# Altium footprint library PcbLib1.PcbLib: 31 footprints (part 1 of 2)
Each footprint in its own frame and in the unit in brackets; x right, y up, seen from the top. Pads: shape width x height; smd on the part's side, far side on the other; paste and mask are expansions set on the pad; w line width, h text height; cw(c..) or ccw(c..) is an arc to the next point about the centre after c.
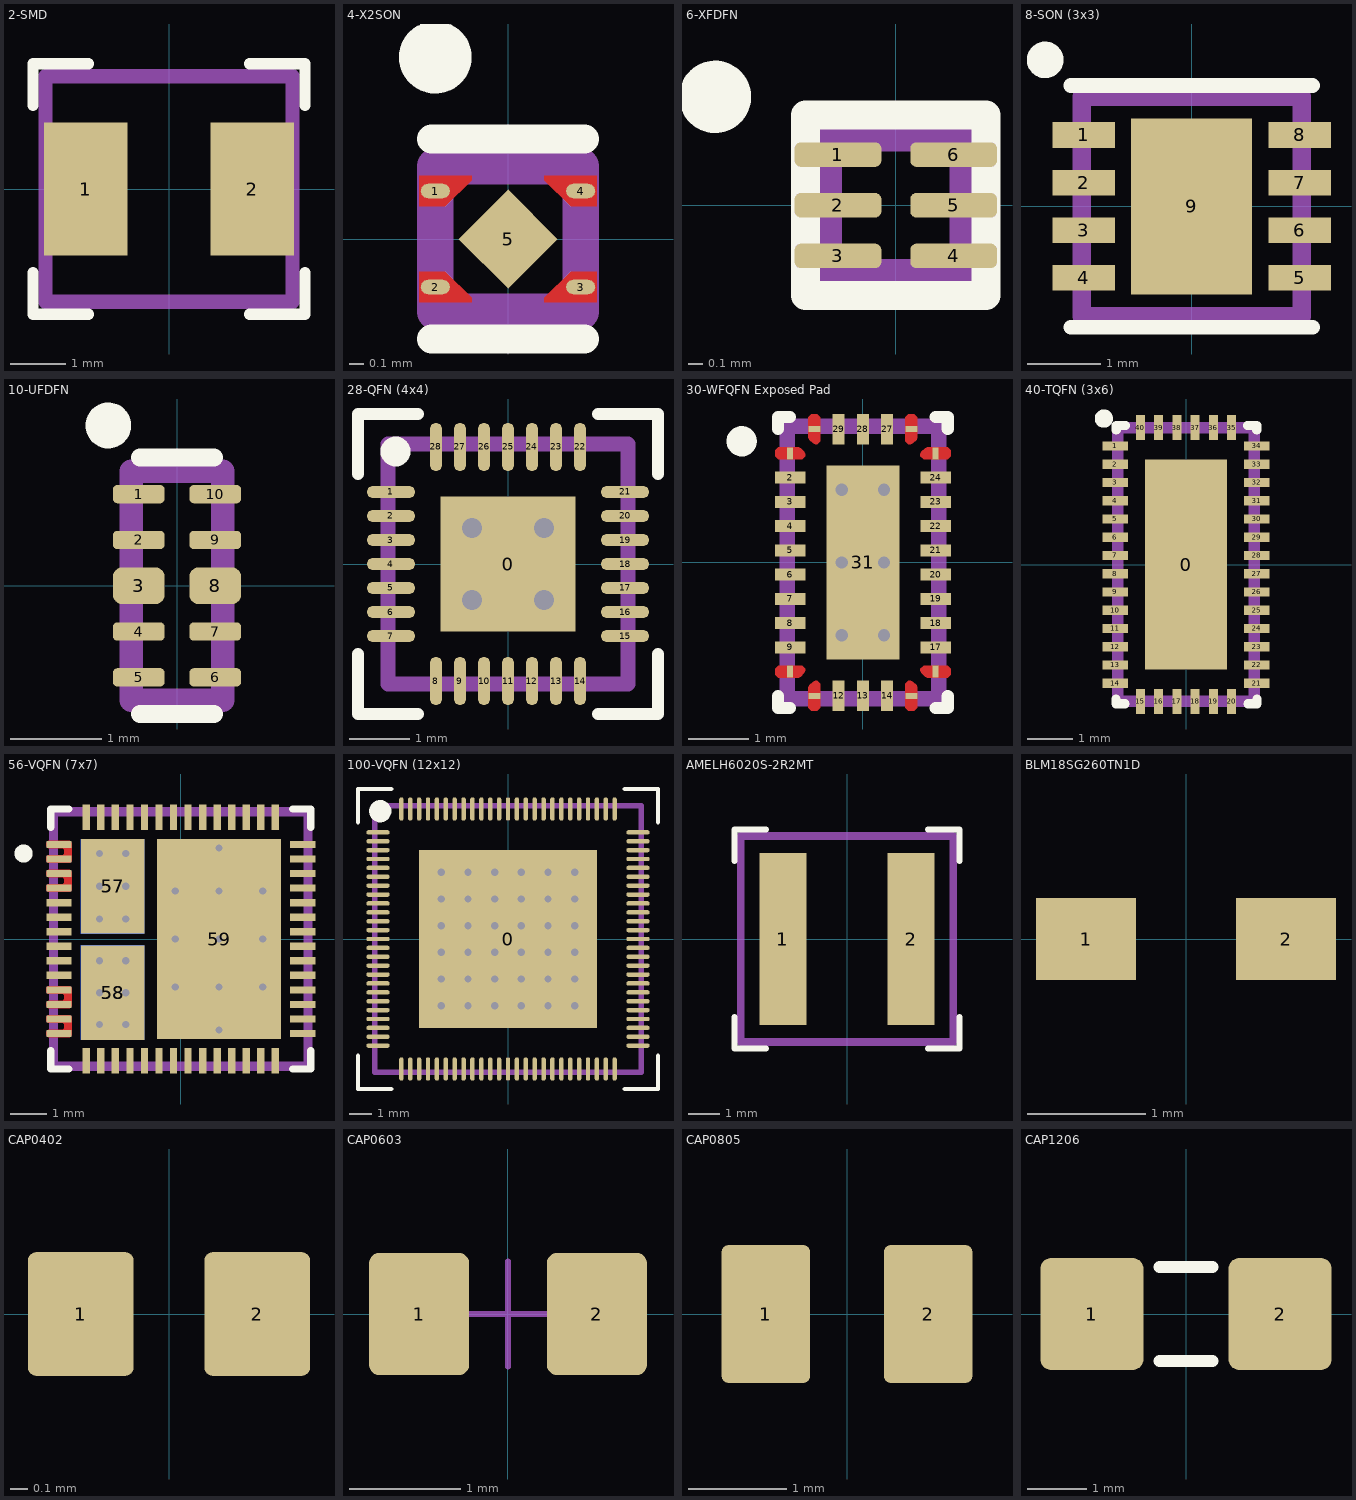
[diagram p0: the footprints below, top view; thin cyan lines are the x and y axes]

## 2-SMD [mm]
pads (2):
  rect 1.5x2.4 smd: 1(-1.5,0) 2(1.5,0)
Top Overlay:
  lines w0.2: -2.45,-1.505 -2.45,-2.255 -1.45,-2.255 ; -2.45,1.505 -2.45,2.255 -1.45,2.255 ; 1.45,-2.255 2.45,-2.255 2.45,-1.505 ; 1.45,2.255 2.45,2.255 2.45,1.505
Top Component Outline:
  lines w0.254: -2.225,-2.03 2.225,-2.03 2.225,2.03 -2.225,2.03 -2.225,-2.03
M9 PCB Sheet:
  text ".Designator" at -2.253,-0.226 h1
3D body "Download_STP_WE-LHMI-4020_rev1.stp": height 1.7, standoff -0.1, extent -2.225,-2.03 2.225,2.03

## 4-X2SON [mm]
pads (5):
  oval 0.2x0.1 smd mask+0: 1(-0.5,0.33) 2(-0.5,-0.33) 3(0.5,-0.33) 4(0.5,0.33)
  rect 0.48x0.48 smd rot 135 paste-0.277: 5(0,0)
Top Layer:
  region: 0.61,0.225 0.61,0.435 0.25,0.435 0.25,0.405 0.43,0.225
  region: -0.61,0.225 -0.61,0.435 -0.25,0.435 -0.25,0.405 -0.43,0.225
  region: -0.61,-0.225 -0.61,-0.435 -0.25,-0.435 -0.25,-0.405 -0.43,-0.225
  region: 0.61,-0.225 0.61,-0.435 0.25,-0.435 0.25,-0.405 0.43,-0.225
Top Overlay:
  circle w0.25: c-0.5,1.25 r0.125
  lines w0.2: -0.525,-0.687 0.525,-0.687 ; -0.525,0.687 0.525,0.687
Top Paste:
  region: 0.283,0.035 0.283,-0.035 0.035,-0.283 -0.035,-0.283 -0.283,-0.035 -0.283,0.035 -0.035,0.283 0.035,0.283
Top Solder:
  region: -0.61,-0.225 -0.61,-0.435 -0.25,-0.435 -0.25,-0.405 -0.43,-0.225
  region: 0.61,-0.225 0.61,-0.435 0.25,-0.435 0.25,-0.405 0.43,-0.225
  region: -0.61,0.225 -0.61,0.435 -0.25,0.435 -0.25,0.405 -0.43,0.225
  region: -0.66,-0.175 -0.66,-0.485 -0.2,-0.485 -0.2,-0.385 -0.41,-0.175
  region: 0.66,-0.175 0.66,-0.485 0.2,-0.485 0.2,-0.385 0.41,-0.175
  region: -0.66,0.175 -0.66,0.485 -0.2,0.485 -0.2,0.385 -0.41,0.175
  region: 0.66,0.175 0.66,0.485 0.2,0.485 0.2,0.385 0.41,0.175
Top Component Outline:
  lines w0.254: -0.5,-0.5 0.5,-0.5 0.5,0.5 -0.5,0.5 -0.5,-0.5
M9 PCB Sheet:
  text ".Designator" at -2.253,-0.226 h1
3D body "DQN0004A.stp": height 0.34, standoff -0.02, extent -0.5,-0.5 0.5,0.5

## 6-XFDFN [mm]
pads (6):
  rrect50% 0.6x0.17 smd: 1(-0.4,0.35) 2(-0.4,0) 3(-0.4,-0.35) 4(0.4,-0.35) 5(0.4,0) 6(0.4,0.35)
Top Overlay:
  circle w0.25: c-1.25,0.75 r0.125
  lines w0.2: -0.625,-0.625 0.625,-0.625 0.625,0.625 -0.625,0.625 -0.625,-0.625
Top Component Outline:
  lines w0.254: -0.5,-0.5 0.5,-0.5 0.5,0.5 -0.5,0.5 -0.5,-0.5
M9 PCB Sheet:
  text ".Designator" at -2.253,-0.226 h1
3D body "DSF0006A.stp": height 0.48, standoff 0, extent -0.5,-0.5 0.5,0.5

## 8-SON (3x3) [mm] "8-VDFN Exposed Pad"
pads (9):
  rect 0.85x0.35 smd: 1(-1.475,0.975) 2(-1.475,0.325) 3(-1.475,-0.325) 4(-1.475,-0.975) 5(1.475,-0.975) 6(1.475,-0.325) 7(1.475,0.325) 8(1.475,0.975)
  rect 1.65x2.4 smd: 9(0,0)
Top Overlay:
  circle w0.25: c-2,2 r0.125
  lines w0.2: -1.65,-1.65 1.65,-1.65 ; -1.65,1.65 1.65,1.65
Top Solder:
  region: 1.97,1.22 0.98,1.22 0.98,0.73 1.97,0.73
  region: 1.97,0.57 0.98,0.57 0.98,0.08 1.97,0.08
  region: 1.97,-0.08 0.98,-0.08 0.98,-0.57 1.97,-0.57
  region: 1.97,-0.73 0.98,-0.73 0.98,-1.22 1.97,-1.22
  region: -0.98,-0.73 -1.97,-0.73 -1.97,-1.22 -0.98,-1.22
  region: -0.98,-0.08 -1.97,-0.08 -1.97,-0.57 -0.98,-0.57
  region: -0.98,0.57 -1.97,0.57 -1.97,0.08 -0.98,0.08
  region: -0.98,1.22 -1.97,1.22 -1.97,0.73 -0.98,0.73
Top Component Outline:
  lines w0.254: -1.5,-1.5 1.5,-1.5 1.5,1.5 -1.5,1.5 -1.5,-1.5
M9 PCB Sheet:
  text ".Designator" at -2.253,-0.226 h1
Top 3D Body:
  lines w0.025: -1.575,-1.16 -1.575,-0.79 -1.575,-1.16 ; -1.575,-0.51 -1.575,-0.14 -1.575,-0.51 ; -1.575,0.14 -1.575,0.51 -1.575,0.14 ; -1.575,0.79 -1.575,1.16 -1.575,0.79 ; 1.575,-1.16 1.575,-0.79 1.575,-1.16 ; 1.575,-0.51 1.575,-0.14 1.575,-0.51 ; 1.575,0.14 1.575,0.51 1.575,0.14 ; 1.575,0.79 1.575,1.16 1.575,0.79
3D body "DRB0008B.stp": height 0.77, standoff 0, extent -1.5,-1.5 1.5,1.5

## 10-UFDFN [mm] "10-USON (2.5x1)"
pads (10):
  rrect50% 0.565x0.2 smd: 1(-0.417,1) 2(-0.417,0.5) 4(-0.417,-0.5) 5(-0.417,-1) 6(0.417,-1) 7(0.417,-0.5) 9(0.417,0.5) 10(0.417,1)
  rrect50% 0.565x0.4 smd: 3(-0.417,0) 8(0.417,0)
Top Overlay:
  circle w0.25: c-0.75,1.75 r0.125
  lines w0.2: -0.4,-1.4 0.4,-1.4 ; -0.4,1.4 0.4,1.4
Top Component Outline:
  lines w0.254: -0.5,-1.25 0.5,-1.25 0.5,1.25 -0.5,1.25 -0.5,-1.25
M9 PCB Sheet:
  text ".Designator" at -2.253,-0.226 h1
3D body "DQA0010A.stp": height 0.55, standoff 0, extent -0.5,-1.25 0.5,1.25

## 28-QFN (4x4) [mm] "28-Lead Very Thin Plastic Quad Flat, No Lead Package (P3A) - 4x4 mm Body [VQFN]"
pads (29):
  rect 2.25x2.25 smd: 0(0,0)
  oval 0.8x0.2 smd: 1(-1.95,1.2) 2(-1.95,0.8) 3(-1.95,0.4) 4(-1.95,0) 5(-1.95,-0.4) 6(-1.95,-0.8) 7(-1.95,-1.2) 15(1.95,-1.2) 16(1.95,-0.8) 17(1.95,-0.4) 18(1.95,0) 19(1.95,0.4) 20(1.95,0.8) 21(1.95,1.2)
  oval 0.2x0.8 smd: 8(-1.2,-1.95) 9(-0.8,-1.95) 10(-0.4,-1.95) 11(0,-1.95) 12(0.4,-1.95) 13(0.8,-1.95) 14(1.2,-1.95) 22(1.2,1.95) 23(0.8,1.95) 24(0.4,1.95) 25(0,1.95) 26(-0.4,1.95) 27(-0.8,1.95) 28(-1.2,1.95)
via -0.6,0.6 diameter 0.6 hole 0.33
via 0.6,0.6 diameter 0.6 hole 0.33
via 0.6,-0.6 diameter 0.6 hole 0.33
via -0.6,-0.6 diameter 0.6 hole 0.33
Top Overlay:
  circle w0.25: c-1.875,1.875 r0.125
  lines w0.2: -2.5,-1.5 -2.5,-2.5 -1.5,-2.5 ; -2.5,1.5 -2.5,2.5 -1.5,2.5 ; 1.5,-2.5 2.5,-2.5 2.5,-1.5 ; 1.5,2.5 2.5,2.5 2.5,1.5
Top Component Outline:
  lines w0.254: -2,-2 2,-2 2,2 -2,2 -2,-2
M9 PCB Sheet:
  text ".Designator" at -2.253,-0.226 h1
3D body "QFN_50CT-IQ8X_MCH.step": height 0.89, standoff 0, extent -1.994,-1.994 1.994,1.994

## 30-WFQFN Exposed Pad [mm]
pads (31):
  rect 0.1x0.2 smd: 1(-1.2,1.8) 10(-1.2,-1.8) 16(1.2,-1.8) 25(1.2,1.8)
  rect 0.5x0.2 smd: 2(-1.2,1.4) 3(-1.2,1) 4(-1.2,0.6) 5(-1.2,0.2) 6(-1.2,-0.2) 7(-1.2,-0.6) 8(-1.2,-1) 9(-1.2,-1.4) 17(1.2,-1.4) 18(1.2,-1) 19(1.2,-0.6) 20(1.2,-0.2) 21(1.2,0.2) 22(1.2,0.6) 23(1.2,1) 24(1.2,1.4)
  rect 0.2x0.1 smd: 11(-0.8,-2.2) 15(0.8,-2.2) 26(0.8,2.2) 30(-0.8,2.2)
  rect 0.2x0.5 smd: 12(-0.4,-2.2) 13(0,-2.2) 14(0.4,-2.2) 27(0.4,2.2) 28(0,2.2) 29(-0.4,2.2)
  rect 1.2x3.2 smd: 31(0,0)
via 0.35,-1.2 diameter 0.2 hole 0.2
via -0.35,-1.2 diameter 0.2 hole 0.2
via -0.35,0 diameter 0.2 hole 0.2
via 0.35,0 diameter 0.2 hole 0.2
via 0.35,1.2 diameter 0.2 hole 0.2
via -0.35,1.2 diameter 0.2 hole 0.2
Top Layer:
  region: 0.7,2 0.7,2.4 0.75,2.45 0.85,2.45 0.9,2.4 0.9,2.062 0.885,2.027 0.823,1.965 0.788,1.95 0.75,1.95
  region: 0.7,-2 0.7,-2.4 0.75,-2.45 0.85,-2.45 0.9,-2.4 0.9,-2.062 0.885,-2.027 0.823,-1.965 0.788,-1.95 0.75,-1.95
  region: 1.027,-1.885 0.965,-1.823 0.95,-1.788 0.95,-1.75 1,-1.7 1.4,-1.7 1.45,-1.75 1.45,-1.85 1.4,-1.9 1.062,-1.9
  region: -1.027,-1.885 -0.965,-1.823 -0.95,-1.788 -0.95,-1.75 -1,-1.7 -1.4,-1.7 -1.45,-1.75 -1.45,-1.85 -1.4,-1.9 -1.062,-1.9
  region: -0.7,-2 -0.7,-2.4 -0.75,-2.45 -0.85,-2.45 -0.9,-2.4 -0.9,-2.062 -0.885,-2.027 -0.823,-1.965 -0.788,-1.95 -0.75,-1.95
  region: -1.027,1.885 -0.965,1.823 -0.95,1.788 -0.95,1.75 -1,1.7 -1.4,1.7 -1.45,1.75 -1.45,1.85 -1.4,1.9 -1.062,1.9
  region: -0.7,2 -0.7,2.4 -0.75,2.45 -0.85,2.45 -0.9,2.4 -0.9,2.062 -0.885,2.027 -0.823,1.965 -0.788,1.95 -0.75,1.95
  region: 1.027,1.885 0.965,1.823 0.95,1.788 0.95,1.75 1,1.7 1.4,1.7 1.45,1.75 1.45,1.85 1.4,1.9 1.062,1.9
Top Overlay:
  circle w0.25: c-2,2 r0.125
  lines w0.2: -1.4,-2.2 -1.4,-2.4 -1.2,-2.4 ; -1.4,2.2 -1.4,2.4 -1.2,2.4 ; 1.2,-2.4 1.4,-2.4 1.4,-2.2 ; 1.2,2.4 1.4,2.4 1.4,2.2
Top Paste:
  region: -0.564,-1.449 -0.565,-1.439 -0.565,-0.151 -0.564,-0.141 -0.561,-0.131 -0.556,-0.123 -0.55,-0.115 -0.542,-0.109 -0.534,-0.104 -0.524,-0.101 -0.514,-0.1 0.514,-0.1 0.524,-0.101 0.534,-0.104 0.542,-0.109 0.55,-0.115 0.556,-0.123 0.561,-0.131 0.564,-0.141 0.565,-0.151 0.565,-1.439 0.564,-1.449 0.561,-1.459 0.556,-1.467 0.55,-1.475 0.542,-1.481 0.534,-1.486 0.524,-1.489 0.514,-1.49 -0.514,-1.49 -0.524,-1.489 -0.534,-1.486 -0.542,-1.481 -0.55,-1.475 -0.556,-1.467 -0.561,-1.459
  region: -0.564,0.141 -0.565,0.151 -0.565,1.439 -0.564,1.449 -0.561,1.459 -0.556,1.467 -0.55,1.475 -0.542,1.481 -0.534,1.486 -0.524,1.489 -0.514,1.49 0.514,1.49 0.524,1.489 0.534,1.486 0.542,1.481 0.55,1.475 0.556,1.467 0.561,1.459 0.564,1.449 0.565,1.439 0.565,0.151 0.564,0.141 0.561,0.131 0.556,0.123 0.55,0.115 0.542,0.109 0.534,0.104 0.524,0.101 0.514,0.1 -0.514,0.1 -0.524,0.101 -0.534,0.104 -0.542,0.109 -0.55,0.115 -0.556,0.123 -0.561,0.131
Top Solder:
  drawing of 4 lines, arcs and shapes, not listed
Top Component Outline:
  lines w0.254: -1.25,-2.25 1.25,-2.25 1.25,2.25 -1.25,2.25 -1.25,-2.25
M9 PCB Sheet:
  text ".Designator" at -2.253,-0.226 h1
3D body "RNH0030A.stp": height 0.8, standoff 0, extent -1.25,-2.25 1.25,2.25

## 40-TQFN (3x6) [mm] "40-Pin, TQFN 3X6mm (W-QFN3060-40)"
pads (41):
  rect 1.8x4.6 smd: 0(0,0)
  rect 0.55x0.2 smd: 1(-1.55,2.6) 2(-1.55,2.2) 3(-1.55,1.8) 4(-1.55,1.4) 5(-1.55,1) 6(-1.55,0.6) 7(-1.55,0.2) 8(-1.55,-0.2) 9(-1.55,-0.6) 10(-1.55,-1) 11(-1.55,-1.4) 12(-1.55,-1.8) 13(-1.55,-2.2) 14(-1.55,-2.6) 21(1.55,-2.6) 22(1.55,-2.2) 23(1.55,-1.8) 24(1.55,-1.4) 25(1.55,-1) 26(1.55,-0.6) 27(1.55,-0.2) 28(1.55,0.2) 29(1.55,0.6) 30(1.55,1) 31(1.55,1.4) 32(1.55,1.8) 33(1.55,2.2) 34(1.55,2.6)
  rect 0.2x0.55 smd: 15(-1,-3) 16(-0.6,-3) 17(-0.2,-3) 18(0.2,-3) 19(0.6,-3) 20(1,-3) 35(1,3) 36(0.6,3) 37(0.2,3) 38(-0.2,3) 39(-0.6,3) 40(-1,3)
Top Overlay:
  circle w0.2: c-1.8,3.2 r0.1
  lines w0.2: -1.534,-2.95 -1.534,-3.05 -1.334,-3.05 ; -1.527,2.95 -1.527,3.05 -1.327,3.05 ; 1.35,3.05 1.55,3.05 1.55,2.95 ; 1.358,-3.05 1.558,-3.05 1.558,-2.95
Top Component Outline:
  lines w0.254: -1.5,-3 1.5,-3 1.5,3 -1.5,3 -1.5,-3
M9 PCB Sheet:
  text ".Designator" at -2.253,-0.226 h1
3D body "PI3USB31532Q2ZLCEX.stp": height 0.8, standoff 0, extent -1.55,-3.05 1.55,3.05

## 56-VQFN (7x7) [mm]
pads (62):
  rect 0.7x0.2 smd: 1(-3.35,2.6) 2(-3.35,2.2) 3(-3.35,1.8) 4(-3.35,1.4) 5(-3.35,1) 6(-3.35,0.6) 7(-3.35,0.2) 8(-3.35,-0.2) 9(-3.35,-0.6) 10(-3.35,-1) 11(-3.35,-1) 12(-3.35,-1.4) 13(-3.35,-1.8) 14(-3.35,-2.2) 15(-3.35,-2.6) 30(3.35,-2.6) 31(3.35,-2.2) 32(3.35,-1.8) 33(3.35,-1.4) 34(3.35,-1) 35(3.35,-0.6) 36(3.35,-0.2) 37(3.35,0.2) 38(3.35,0.6) 39(3.35,1) 40(3.35,1.4) 41(3.35,1.8) 42(3.35,2.2) 43(3.35,2.6)
  rect 0.2x0.7 smd: 16(-2.6,-3.35) 17(-2.2,-3.35) 18(-1.8,-3.35) 19(-1.4,-3.35) 20(-1,-3.35) 21(-0.6,-3.35) 22(-0.2,-3.35) 23(0.2,-3.35) 24(0.6,-3.35) 25(1,-3.35) 26(1.4,-3.35) 27(1.8,-3.35) 28(2.2,-3.35) 29(2.6,-3.35) 44(2.6,3.35) 45(2.2,3.35) 46(1.8,3.35) 47(1.4,3.35) 48(1,3.35) 49(0.6,3.35) 50(0.2,3.35) 51(-0.2,3.35) 52(-0.6,3.35) 53(-1,3.35) 54(-1.4,3.35) 55(-1.8,3.35) 56(-2.2,3.35) 57(-2.6,3.35)
  rect 1.75x2.6 smd: 57(-1.875,1.45) 58(-1.875,-1.475)
  rect 1.75x2.6 smd far side: 57(-1.875,1.45) 58(-1.875,-1.475)
  rect 3.4x5.5 smd: 59(1.05,0)
via 1.05,0 diameter 0.2 hole 0.2
via -1.513,2.35 diameter 0.2 hole 0.2
via -2.237,2.35 diameter 0.2 hole 0.2
via -2.237,1.45 diameter 0.2 hole 0.2
via -1.513,1.45 diameter 0.2 hole 0.2
via -1.513,0.55 diameter 0.2 hole 0.2
via -2.237,0.55 diameter 0.2 hole 0.2
via -2.237,-0.6 diameter 0.2 hole 0.2
via -1.513,-0.6 diameter 0.2 hole 0.2
via -1.513,-1.475 diameter 0.2 hole 0.2
via -2.237,-1.475 diameter 0.2 hole 0.2
via -2.237,-2.35 diameter 0.2 hole 0.2
via -1.513,-2.35 diameter 0.2 hole 0.2
via 1.05,-2.5 diameter 0.2 hole 0.2
via 2.25,-1.32 diameter 0.2 hole 0.2
via 2.25,0 diameter 0.2 hole 0.2
via 2.25,1.32 diameter 0.2 hole 0.2
via 1.05,2.5 diameter 0.2 hole 0.2
via 1.05,1.32 diameter 0.2 hole 0.2
via 1.05,-1.32 diameter 0.2 hole 0.2
via -0.15,-1.32 diameter 0.2 hole 0.2
via -0.15,1.32 diameter 0.2 hole 0.2
via -0.15,0 diameter 0.2 hole 0.2
Top Layer:
  region: -3.05,1.9 -3.35,1.9 -3.65,1.9 -3.7,1.85 -3.7,1.75 -3.65,1.7 -3.25,1.7 -3.2,1.65 -3.2,1.55 -3.25,1.5 -3.65,1.5 -3.7,1.45 -3.7,1.35 -3.65,1.3 -3.05,1.3 -3,1.35 -3,1.85
  region: -3.05,2.7 -3.65,2.7 -3.7,2.65 -3.7,2.55 -3.65,2.5 -3.25,2.5 -3.2,2.45 -3.2,2.35 -3.25,2.3 -3.65,2.3 -3.7,2.25 -3.7,2.15 -3.65,2.1 -3.05,2.1 -3,2.15 -3,2.65
  region: -3.05,-1.3 -3.65,-1.3 -3.7,-1.35 -3.7,-1.45 -3.65,-1.5 -3.25,-1.5 -3.2,-1.55 -3.2,-1.65 -3.25,-1.7 -3.65,-1.7 -3.7,-1.75 -3.7,-1.85 -3.65,-1.9 -3.05,-1.9 -3,-1.85 -3,-1.35
  region: -3.05,-2.1 -3.65,-2.1 -3.7,-2.15 -3.7,-2.25 -3.65,-2.3 -3.25,-2.3 -3.2,-2.35 -3.2,-2.45 -3.25,-2.5 -3.65,-2.5 -3.7,-2.55 -3.7,-2.65 -3.65,-2.7 -3.05,-2.7 -3,-2.65 -3,-2.15
Top Overlay:
  circle w0.25: c-4.325,2.35 r0.125
  lines w0.2: -3.575,-3.075 -3.575,-3.575 -3.075,-3.575 ; -3.575,3.075 -3.575,3.575 -3.075,3.575 ; 3.075,-3.575 3.575,-3.575 3.575,-3.075 ; 3.075,3.575 3.575,3.575 3.575,3.075
Top Component Outline:
  lines w0.254: -3.5,-3.5 3.5,-3.5 3.5,3.5 -3.5,3.5 -3.5,-3.5
M9 PCB Sheet:
  text ".Designator" at -2.253,-0.226 h1
3D body "RSH0056E.stp": height 1, standoff 0, extent -3.5,-3.5 3.5,3.5

## 100-VQFN (12x12) [mm] "100-Lead Very Thin Plastic Quad Flat, No Lead Package (KD) - 12x12 mm Body [VQFN]"
height 0.85
pads (101):
  rect 8x8 smd: 0(0,0)
  oval 1.05x0.2 smd: 1(-5.85,4.8) 2(-5.85,4.4) 3(-5.85,4) 4(-5.85,3.6) 5(-5.85,3.2) 6(-5.85,2.8) 7(-5.85,2.4) 8(-5.85,2) 9(-5.85,1.6) 10(-5.85,1.2) 11(-5.85,0.8) 12(-5.85,0.4) 13(-5.85,0) 14(-5.85,-0.4) 15(-5.85,-0.8) 16(-5.85,-1.2) 17(-5.85,-1.6) 18(-5.85,-2) 19(-5.85,-2.4) 20(-5.85,-2.8) 21(-5.85,-3.2) 22(-5.85,-3.6) 23(-5.85,-4) 24(-5.85,-4.4) 25(-5.85,-4.8) 51(5.85,-4.8) 52(5.85,-4.4) 53(5.85,-4) 54(5.85,-3.6) 55(5.85,-3.2) 56(5.85,-2.8) 57(5.85,-2.4) 58(5.85,-2) 59(5.85,-1.6) 60(5.85,-1.2) 61(5.85,-0.8) 62(5.85,-0.4) 63(5.85,0) 64(5.85,0.4) 65(5.85,0.8) 66(5.85,1.2) 67(5.85,1.6) 68(5.85,2) 69(5.85,2.4) 70(5.85,2.8) 71(5.85,3.2) 72(5.85,3.6) 73(5.85,4) 74(5.85,4.4) 75(5.85,4.8)
  oval 0.2x1.05 smd: 26(-4.8,-5.85) 27(-4.4,-5.85) 28(-4,-5.85) 29(-3.6,-5.85) 30(-3.2,-5.85) 31(-2.8,-5.85) 32(-2.4,-5.85) 33(-2,-5.85) 34(-1.6,-5.85) 35(-1.2,-5.85) 36(-0.8,-5.85) 37(-0.4,-5.85) 38(0,-5.85) 39(0.4,-5.85) 40(0.8,-5.85) 41(1.2,-5.85) 42(1.6,-5.85) 43(2,-5.85) 44(2.4,-5.85) 45(2.8,-5.85) 46(3.2,-5.85) 47(3.6,-5.85) 48(4,-5.85) 49(4.4,-5.85) 50(4.8,-5.85) 76(4.8,5.85) 77(4.4,5.85) 78(4,5.85) 79(3.6,5.85) 80(3.2,5.85) 81(2.8,5.85) 82(2.4,5.85) 83(2,5.85) 84(1.6,5.85) 85(1.2,5.85) 86(0.8,5.85) 87(0.4,5.85) 88(0,5.85) 89(-0.4,5.85) 90(-0.8,5.85) 91(-1.2,5.85) 92(-1.6,5.85) 93(-2,5.85) 94(-2.4,5.85) 95(-2.8,5.85) 96(-3.2,5.85) 97(-3.6,5.85) 98(-4,5.85) 99(-4.4,5.85) 100(-4.8,5.85)
via -3,3 diameter 0.6 hole 0.33
via -3,1.8 diameter 0.6 hole 0.33
via -3,0.6 diameter 0.6 hole 0.33
via -3,-0.6 diameter 0.6 hole 0.33
via -3,-1.8 diameter 0.6 hole 0.33
via -3,-3 diameter 0.6 hole 0.33
via -1.8,3 diameter 0.6 hole 0.33
via -1.8,1.8 diameter 0.6 hole 0.33
via -1.8,0.6 diameter 0.6 hole 0.33
via -1.8,-0.6 diameter 0.6 hole 0.33
via -1.8,-1.8 diameter 0.6 hole 0.33
via -1.8,-3 diameter 0.6 hole 0.33
via -0.6,3 diameter 0.6 hole 0.33
via -0.6,1.8 diameter 0.6 hole 0.33
via -0.6,0.6 diameter 0.6 hole 0.33
via -0.6,-0.6 diameter 0.6 hole 0.33
via -0.6,-1.8 diameter 0.6 hole 0.33
via -0.6,-3 diameter 0.6 hole 0.33
via 0.6,3 diameter 0.6 hole 0.33
via 0.6,1.8 diameter 0.6 hole 0.33
via 0.6,0.6 diameter 0.6 hole 0.33
via 0.6,-0.6 diameter 0.6 hole 0.33
via 0.6,-1.8 diameter 0.6 hole 0.33
via 0.6,-3 diameter 0.6 hole 0.33
via 1.8,3 diameter 0.6 hole 0.33
via 1.8,1.8 diameter 0.6 hole 0.33
via 1.8,0.6 diameter 0.6 hole 0.33
via 1.8,-0.6 diameter 0.6 hole 0.33
via 1.8,-1.8 diameter 0.6 hole 0.33
via 1.8,-3 diameter 0.6 hole 0.33
via 3,3 diameter 0.6 hole 0.33
via 3,1.8 diameter 0.6 hole 0.33
via 3,0.6 diameter 0.6 hole 0.33
via 3,-0.6 diameter 0.6 hole 0.33
via 3,-1.8 diameter 0.6 hole 0.33
via 3,-3 diameter 0.6 hole 0.33
Top Overlay:
  circle w0.5: c-5.75,5.75 r0.25
  lines w0.2: -6.75,-5.25 -6.75,-6.75 -5.25,-6.75 ; -6.75,5.25 -6.75,6.75 -5.25,6.75 ; 5.25,-6.75 6.75,-6.75 6.75,-5.25 ; 5.25,6.75 6.75,6.75 6.75,5.25
Top Component Outline:
  lines w0.254: -6,-6 6,-6 6,6 -6,6 -6,-6
M9 PCB Sheet:
  text ".Designator" at -2.253,-0.226 h1
3D body "VQFN100_KDX_MCH.step": height 0.89, standoff 0, extent -5.994,-5.994 5.994,5.994

## AMELH6020S-2R2MT [mm]
pads (2):
  rect 1.5x5.5 smd: 1(-2.05,0) 2(2.05,0)
Top Overlay:
  lines w0.2: -3.6,-2.5 -3.6,-3.5 -2.6,-3.5 ; -3.6,2.5 -3.6,3.5 -2.6,3.5 ; 2.6,-3.5 3.6,-3.5 3.6,-2.5 ; 2.6,3.5 3.6,3.5 3.6,2.5
Top Component Outline:
  lines w0.254: -3.4,-3.3 3.4,-3.3 3.4,3.3 -3.4,3.3 -3.4,-3.3
M9 PCB Sheet:
  text ".Designator" at -2.253,-0.226 h1
3D body: height 1.9, standoff 0, extent -3.4,-3.3 3.4,3.3

## BLM18SG260TN1D [mm]
pads (2):
  rect 0.85x0.7 smd: 1(-0.85,0) 2(0.85,0)
M9 PCB Sheet:
  text ".Designator" at -2.253,-0.226 h1
3D body "IND_BLM18_0603_MUR.step": height 0.94, standoff 0, extent -0.876,-0.47 0.876,0.47

## CAP0402 [mm] "Chip Capacitor, Body 1x0.5mm, Height 0.35mm, IPC Medium Density"
pads (2):
  rrect15% 0.6x0.7 smd: 1(-0.5,0) 2(0.5,0)
M9 PCB Sheet:
  text ".Designator" at -2.253,-0.226 h1
3D body "CAP0402.stp": height 0.54, standoff -0.01, extent -0.525,-0.275 0.525,0.275

## CAP0603 [mm]
height 0.55
pads (2):
  rrect20% 0.9x1.1 smd: 1(-0.8,0) 2(0.8,0)
M9 PCB Sheet:
  text ".Designator" at -2.253,-0.226 h1
Top 3D Body:
  lines w0.1: -0.875,-0.475 -0.875,0.475 ; 0.875,-0.475 0.875,0.475
Top Courtyard:
  lines w0.05: -0.475,0 0.475,0 ; 0,-0.475 0,0.475
3D body "c0603c101j1gactu.stp": height 0.87, standoff 0, extent -0.875,-0.475 0.875,0.475

## CAP0805 [mm] "Chip Capacitor, Body 2.0x1.2mm, Height 0.45mm, IPC Medium Density"
pads (2):
  rrect15% 0.9x1.4 smd: 1(-0.825,0) 2(0.825,0)
M9 PCB Sheet:
  text ".Designator" at -2.253,-0.226 h1
3D body "CAP0805.stp": height 1.39, standoff -0.01, extent -1.1,-0.725 1.1,0.725

## CAP1206 [mm] "Chip Capacitor, Body 3.2x1.6mm, Height 0.55mm, IPC Medium Density"
height 0.55
pads (2):
  rrect20% 1.75x1.9 smd: 1(-1.6,0) 2(1.6,0)
Top Overlay:
  lines w0.2: -0.45,-0.8 0.45,-0.8 ; -0.45,0.8 0.45,0.8
M9 PCB Sheet:
  text ".Designator" at -2.253,-0.226 h1
3D body "1206.stp": height 0.88, standoff 0, extent -1.7,-0.9 1.7,0.9